# EAGLE library part TCA9554A (library quentin)
8 io expander
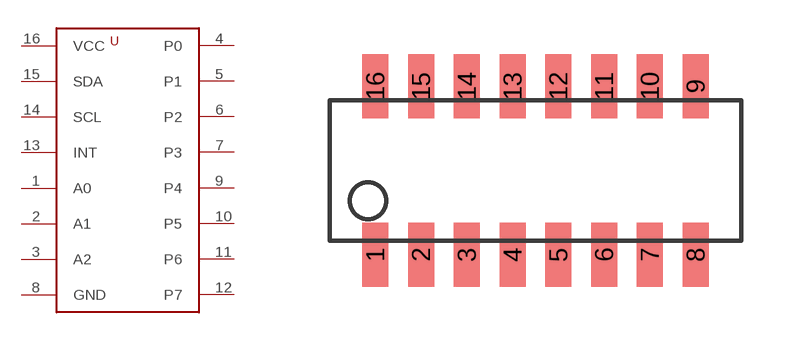
[diagram p10: symbol with the pads of SOIC-16; footprint SOIC-16]

Designator prefix -

## TCA9554A  [SOIC-16]
1  A0
2  A1
3  A2
4  P0
5  P1
6  P2
7  P3
8  GND
9  P4
10  P5
11  P6
12  P7
13  INT
14  SCL
15  SDA
16  VCC

## Footprint SOIC-16 (pad centres in mm)
smd 0.72 x 1.78: 1 0,0; 2 1.27,0; 3 2.54,0; 4 3.81,0; 5 5.08,0; 6 6.35,0; 7 7.62,0; 8 8.89,0; 9 8.89,4.68; 10 7.62,4.68; 11 6.35,4.68; 12 5.08,4.68; 13 3.81,4.68; 14 2.54,4.68; 15 1.27,4.68; 16 0,4.68